# Altium footprint library gumstix.PcbLib: 27 footprints (part 1 of 2)
Each footprint in its own frame and in the unit in brackets; x right, y up, seen from the top. Pads: shape width x height; smd on the part's side, far side on the other; paste and mask are expansions set on the pad; w line width, h text height; cw(c..) or ccw(c..) is an arc to the next point about the centre after c.
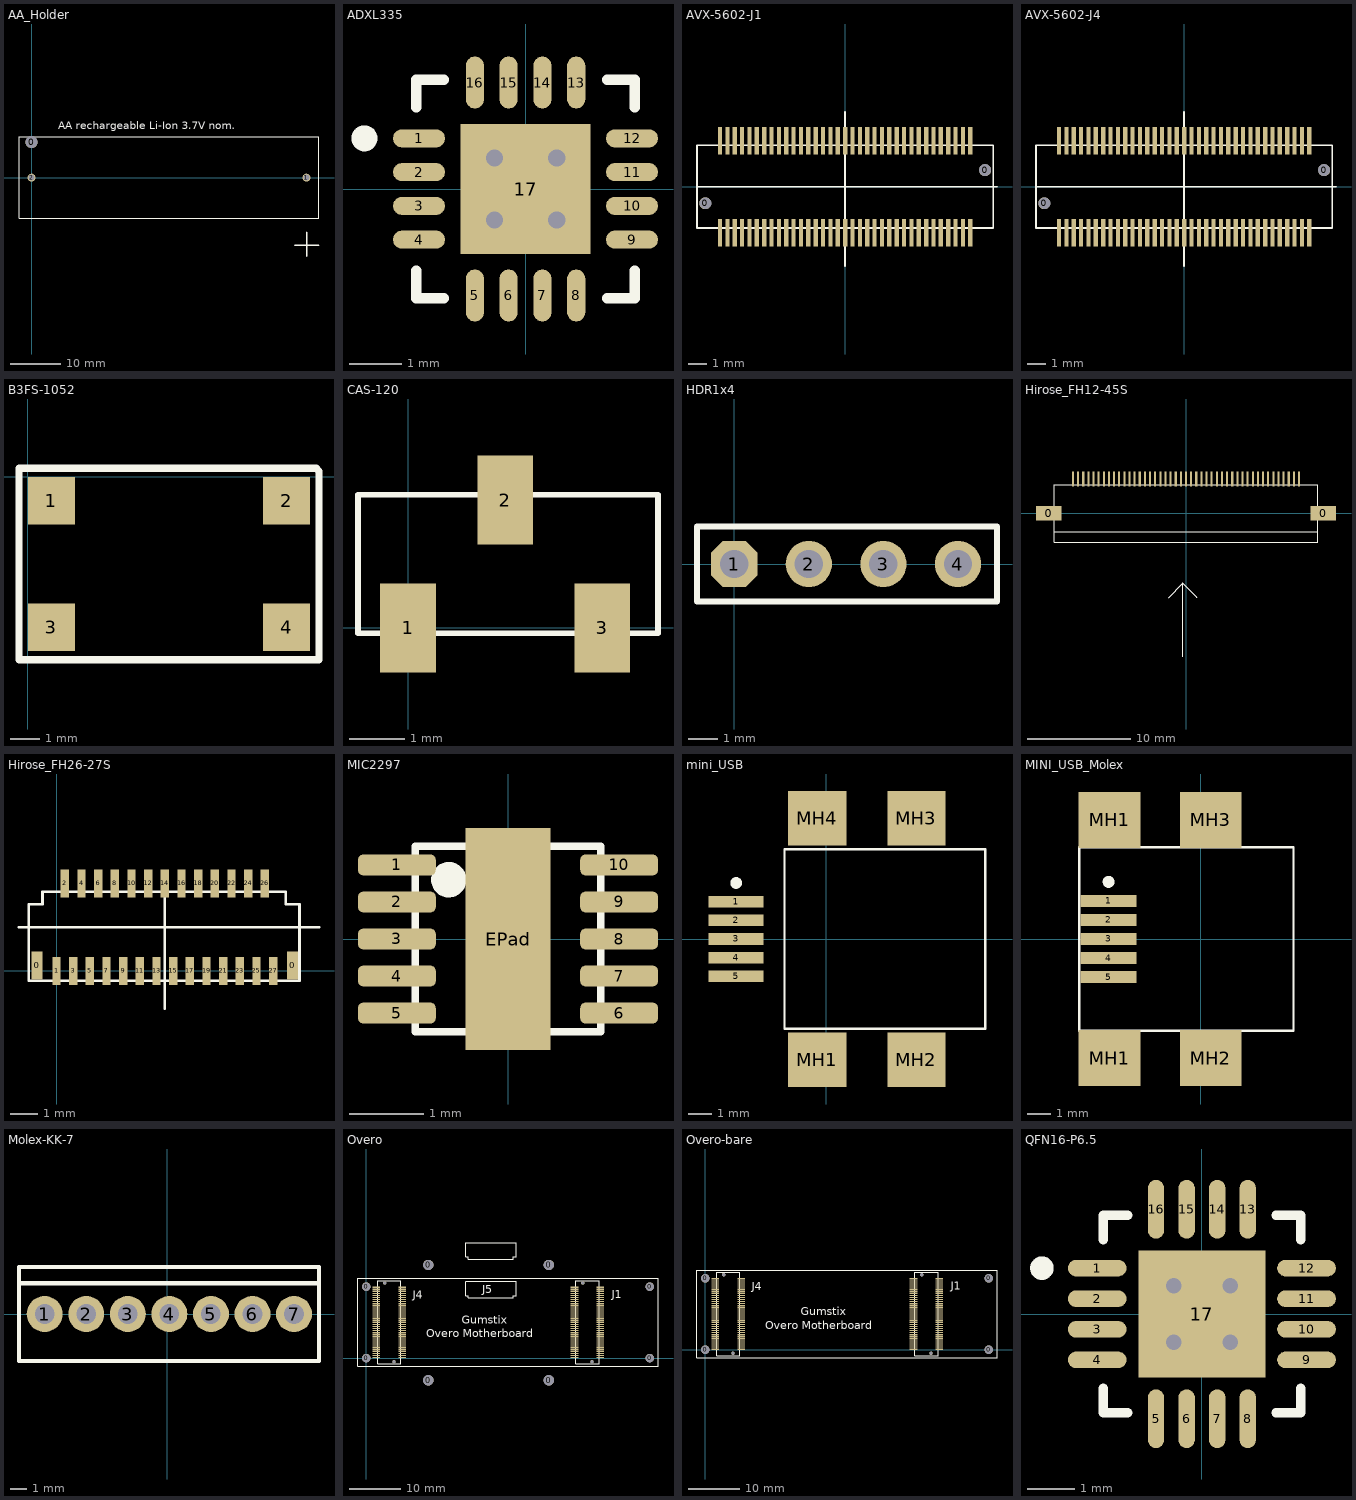
[diagram p0: the footprints below, top view; thin cyan lines are the x and y axes]

## AA_Holder [mm] "Keystone Electronics battery holder for lithium AA"
height 0.6
pads (3):
  round 2.4 hole 2.4: 0(0,7.1)
  round 1.6 hole 1.2: 1(54.9,0) 2(0,0)
Top Overlay:
  lines w0.1: -2.5,-8.15 57.4,-8.15 57.4,8.15 -2.5,8.15 -2.5,-8.15
  lines w0.3: 52.55,-13.45 57.35,-13.45 ; 55,-15.7 55,-10.85
  text "AA rechargeable Li-Ion 3.7V nom." at 5.35,9.65 h1.52

## ADXL335 [mm]
height 1.5
pads (17):
  oval 1x0.35 smd: 1(-2.05,0.975) 2(-2.05,0.325) 3(-2.05,-0.325) 4(-2.05,-0.975) 9(2.05,-0.975) 10(2.05,-0.325) 11(2.05,0.325) 12(2.05,0.975)
  oval 0.35x1 smd: 5(-0.975,-2.05) 6(-0.325,-2.05) 7(0.325,-2.05) 8(0.975,-2.05) 13(0.975,2.05) 14(0.325,2.05) 15(-0.325,2.05) 16(-0.975,2.05)
  rect 2.5x2.5 smd: 17(0,0)
via -0.6,0.6 diameter 0.66 hole 0.33
via 0.6,0.6 diameter 0.66 hole 0.33
via -0.6,-0.6 diameter 0.66 hole 0.33
via 0.6,-0.6 diameter 0.66 hole 0.33
Top Overlay:
  circle w0.25: c-3.1,0.975 r0.125
  lines w0.2: -2.1,-1.575 -2.1,-2.1 -1.575,-2.1 ; -2.1,1.575 -2.1,2.1 -1.575,2.1 ; 1.575,-2.1 2.1,-2.1 2.1,-1.575 ; 1.575,2.1 2.1,2.1 2.1,1.575

## AVX-5602-J1 [mm] "Receptacle Vertical SMT Without metal tab"
height 1.5
pads (72):
  round 0.65 hole 0.65: 0(-7.6,-0.9) 0(7.6,0.9)
  rect 0.23x1.5 smd: J1_1(6.8,-2.5) J1_2(6.4,-2.5) J1_3(6,-2.5) J1_4(5.6,-2.5) J1_5(5.2,-2.5) J1_6(4.8,-2.5) J1_7(4.4,-2.5) J1_8(4,-2.5) J1_9(3.6,-2.5) J1_10(3.2,-2.5) J1_11(2.8,-2.5) J1_12(2.4,-2.5) J1_13(2,-2.5) J1_14(1.6,-2.5) J1_15(1.2,-2.5) J1_16(0.8,-2.5) J1_17(0.4,-2.5) J1_18(0,-2.5) J1_19(-0.4,-2.5) J1_20(-0.8,-2.5) J1_21(-1.2,-2.5) J1_22(-1.6,-2.5) J1_23(-2,-2.5) J1_24(-2.4,-2.5) J1_25(-2.8,-2.5) J1_26(-3.2,-2.5) J1_27(-3.6,-2.5) J1_28(-4,-2.5) J1_29(-4.4,-2.5) J1_30(-4.8,-2.5) J1_31(-5.2,-2.5) J1_32(-5.6,-2.5) J1_33(-6,-2.5) J1_34(-6.4,-2.5) J1_35(-6.8,-2.5) J1_36(-6.8,2.5) J1_37(-6.4,2.5) J1_38(-6,2.5) J1_39(-5.6,2.5) J1_40(-5.2,2.5) J1_41(-4.8,2.5) J1_42(-4.4,2.5) J1_43(-4,2.5) J1_44(-3.6,2.5) J1_45(-3.2,2.5) J1_46(-2.8,2.5) J1_47(-2.4,2.5) J1_48(-2,2.5) J1_49(-1.6,2.5) J1_50(-1.2,2.5) J1_51(-0.8,2.5) J1_52(-0.4,2.5) J1_53(0,2.5) J1_54(0.4,2.5) J1_55(0.8,2.5) J1_56(1.2,2.5) J1_57(1.6,2.5) J1_58(2,2.5) J1_59(2.4,2.5) J1_60(2.8,2.5) J1_61(3.2,2.5) J1_62(3.6,2.5) J1_63(4,2.5) J1_64(4.4,2.5) J1_65(4.8,2.5) J1_66(5.2,2.5) J1_67(5.6,2.5) J1_68(6,2.5) J1_69(6.4,2.5) J1_70(6.8,2.5)
Top Overlay:
  lines w0.1: -8,0 8.25,0 ; 0,-4.3 0,4.05 ; -8.05,-2.25 -8.05,2.25 8.05,2.25 8.05,-2.25 -8.05,-2.25

## AVX-5602-J4 [mm] "Receptacle Vertical SMT Without metal tab"
height 1.5
pads (72):
  round 0.65 hole 0.65: 0(-7.6,-0.9) 0(7.6,0.9)
  rect 0.23x1.5 smd: J4_1(6.8,-2.5) J4_2(6.4,-2.5) J4_3(6,-2.5) J4_4(5.6,-2.5) J4_5(5.2,-2.5) J4_6(4.8,-2.5) J4_7(4.4,-2.5) J4_8(4,-2.5) J4_9(3.6,-2.5) J4_10(3.2,-2.5) J4_11(2.8,-2.5) J4_12(2.4,-2.5) J4_13(2,-2.5) J4_14(1.6,-2.5) J4_15(1.2,-2.5) J4_16(0.8,-2.5) J4_17(0.4,-2.5) J4_18(0,-2.5) J4_19(-0.4,-2.5) J4_20(-0.8,-2.5) J4_21(-1.2,-2.5) J4_22(-1.6,-2.5) J4_23(-2,-2.5) J4_24(-2.4,-2.5) J4_25(-2.8,-2.5) J4_26(-3.2,-2.5) J4_27(-3.6,-2.5) J4_28(-4,-2.5) J4_29(-4.4,-2.5) J4_30(-4.8,-2.5) J4_31(-5.2,-2.5) J4_32(-5.6,-2.5) J4_33(-6,-2.5) J4_34(-6.4,-2.5) J4_35(-6.8,-2.5) J4_36(-6.8,2.5) J4_37(-6.4,2.5) J4_38(-6,2.5) J4_39(-5.6,2.5) J4_40(-5.2,2.5) J4_41(-4.8,2.5) J4_42(-4.4,2.5) J4_43(-4,2.5) J4_44(-3.6,2.5) J4_45(-3.2,2.5) J4_46(-2.8,2.5) J4_47(-2.4,2.5) J4_48(-2,2.5) J4_49(-1.6,2.5) J4_50(-1.2,2.5) J4_51(-0.8,2.5) J4_52(-0.4,2.5) J4_53(0,2.5) J4_54(0.4,2.5) J4_55(0.8,2.5) J4_56(1.2,2.5) J4_57(1.6,2.5) J4_58(2,2.5) J4_59(2.4,2.5) J4_60(2.8,2.5) J4_61(3.2,2.5) J4_62(3.6,2.5) J4_63(4,2.5) J4_64(4.4,2.5) J4_65(4.8,2.5) J4_66(5.2,2.5) J4_67(5.6,2.5) J4_68(6,2.5) J4_69(6.4,2.5) J4_70(6.8,2.5)
Top Overlay:
  lines w0.1: -8,0 8.25,0 ; 0,-4.3 0,4.05 ; -8.05,-2.25 8.05,-2.25 8.05,2.25 -8.05,2.25 -8.05,-2.25

## B3FS-1052 [mm] "SMD SPNO tactile switch"
height 9.5
pads (4):
  rect 1.6x1.6 smd: 1(0.8,-0.825) 2(8.8,-0.825) 3(0.8,-5.125) 4(8.8,-5.125)
Top Overlay:
  lines w0.254: -0.3,-6.225 9.9,-6.225 9.9,0.175 9.8,0.275 -0.3,0.275 -0.3,-6.225

## CAS-120 [mm] "SMD slide switch"
height 2.5
pads (3):
  rect 1x1.6 smd: 1(0,0) 2(1.75,2.3) 3(3.5,0)
Top Overlay:
  lines w0.1: -0.9,-0.1 4.5,-0.1 4.5,2.4 -0.9,2.4 -0.9,-0.1

## HDR1x4 [mil]
pads (4):
  oct 62x62 hole 38: 1(0,0)
  round 62 hole 38: 2(100,0) 3(200,0) 4(300,0)
Top Overlay:
  lines w8: -50,-50 -50,50 352.36,50 352.36,-50 -50,-50

## Hirose_FH12-45S [mm] "45 Pin connector for Samsung LCD"
pads (47):
  rect 2.5x1.4 smd: 0(-13.35,0) 0(13.35,0)
  rrect50% 0.2x1.5 smd: 1(-11,3.35) 2(-10.5,3.35) 3(-10,3.35) 4(-9.5,3.35) 5(-9,3.35) 6(-8.5,3.35) 7(-8,3.35) 8(-7.5,3.35) 9(-7,3.35) 10(-6.5,3.35) 11(-6,3.35) 12(-5.5,3.35) 13(-5,3.35) 14(-4.5,3.35) 15(-4,3.35) 16(-3.5,3.35) 17(-3,3.35) 18(-2.5,3.35) 19(-2,3.35) 20(-1.5,3.35) 21(-1,3.35) 22(-0.5,3.35) 23(0,3.35) 24(0.5,3.35) 25(1,3.35) 26(1.5,3.35) 27(2,3.35) 28(2.5,3.35) 29(3,3.35) 30(3.5,3.35) 31(4,3.35) 32(4.5,3.35) 33(5,3.35) 34(5.5,3.35) 35(6,3.35) 36(6.5,3.35) 37(7,3.35) 38(7.5,3.35) 39(8,3.35) 40(8.5,3.35) 41(9,3.35) 42(9.5,3.35) 43(10,3.35) 44(10.5,3.35) 45(11,3.35)
Top Overlay:
  lines w0.1: -12.8,-1.8 12.8,-1.8 ; -1.7,-8.2 -0.3,-6.8 1.05,-8.15 1.05,-8.2 ; -0.3,-13.95 -0.3,-6.75 ; -12.8,-2.8 12.8,-2.8 12.8,2.8 -12.8,2.8 -12.8,-2.8

## Hirose_FH26-27S [mm] "Camera Interface connector"
pads (29):
  rect 0.4x1 smd: 0(-0.7,0.2) 0(8.5,0.2)
  rect 0.3x1 smd: 1(0,0) 2(0.3,3.15) 3(0.6,0) 4(0.9,3.15) 5(1.2,0) 6(1.5,3.15) 7(1.8,0) 8(2.1,3.15) 9(2.4,0) 10(2.7,3.15) 11(3,0) 12(3.3,3.15) 13(3.6,0) 14(3.9,3.15) 15(4.2,0) 16(4.5,3.15) 17(4.8,0) 18(5.1,3.15) 19(5.4,0) 20(5.7,3.15) 21(6,0) 22(6.3,3.15) 23(6.6,0) 24(6.9,3.15) 25(7.2,0) 26(7.5,3.15) 27(7.8,0)
Top Overlay:
  lines w0.1: -1.35,1.575 9.45,1.575 ; 3.9,-1.35 3.9,3.05 ; 8.75,-0.35 -1,-0.35 -1,2.4 -0.5,2.4 -0.5,2.85 8.25,2.85 8.25,2.4 8.75,2.4 8.75,-0.3

## MIC2297 [mm] "Micrel White LED Driver"
height 0.85
pads (11):
  rrect50% 1.05x0.28 smd: 1(-1.5,1) 2(-1.5,0.5) 3(-1.5,0) 4(-1.5,-0.5) 5(-1.5,-1) 6(1.5,-1) 7(1.5,-0.5) 8(1.5,0) 9(1.5,0.5) 10(1.5,1)
  rect 1.15x3 smd: EPad(0,0)
Top Overlay:
  circle w0.254: c-0.8,0.8 r0.112
  lines w0.1: -1.25,-1.25 1.25,-1.25 1.25,1.25 -1.25,1.25 -1.25,-1.25

## mini_USB [mm]
pads (9):
  rect 2.35x0.5 smd: 1(-3.862,1.6) 2(-3.862,0.8) 3(-3.862,0) 4(-3.862,-0.8) 5(-3.862,-1.6)
  rect 2.5x2.35 smd: MH1(-0.387,-5.175) MH2(3.863,-5.175) MH3(3.863,5.175) MH4(-0.387,5.175)
Top Overlay:
  circle w0.25: c-3.862,2.4 r0.125
  lines w0.1: -1.788,-3.85 6.813,-3.85 6.813,3.85 -1.788,3.85 -1.788,-3.85

## MINI_USB_Molex [mm]
pads (9):
  rect 2.35x0.5 smd: 1(-3.862,1.6) 2(-3.862,0.8) 3(-3.862,0) 4(-3.862,-0.8) 5(-3.862,-1.6)
  rect 2.6x2.35 smd: MH1(-3.825,-5) MH1(-3.825,5) MH2(0.425,-5) MH3(0.425,5)
Top Overlay:
  circle w0.25: c-3.862,2.4 r0.125
  lines w0.1: -5.1,-3.85 3.9,-3.85 3.9,3.85 -5.1,3.85 -5.1,-3.85

## Molex-KK-7 [mm] "7 pin wire-to-board PCB connector"
pads (7):
  round 2.2 hole 1.2: 1(-7.5,0) 2(-4.96,0) 3(-2.42,0) 4(0.12,0) 5(2.66,0) 6(5.2,0) 7(7.74,0)
Top Overlay:
  lines w0.254: -9.07,-2.88 -9.07,2.88 ; -9.025,-2.88 9.265,-2.88 ; -9.025,1.88 9.265,1.88 ; -9.025,2.88 9.265,2.88 ; 9.26,-2.88 9.26,2.88

## Overo [mm] "Gumstix Overo Motherboard placement"
height 6
pads (152):
  round 1.65 hole 1.65 unplated: 0(0,0) 0(0,13.8) 0(54.8,0) 0(54.8,13.8)
  round 0.65 hole 0.65: 0(3.55,14.5) 0(5.35,-0.7) 0(41.85,14.5) 0(43.65,-0.7)
  round 2 hole 2: 0(12,-4.3) 0(12,18) 0(35.3,-4.3) 0(35.3,18)
  rect 1.5x0.23 smd: J1_1(40.25,0.1) J1_2(40.25,0.5) J1_3(40.25,0.9) J1_4(40.25,1.3) J1_5(40.25,1.7) J1_6(40.25,2.1) J1_7(40.25,2.5) J1_8(40.25,2.9) J1_9(40.25,3.3) J1_10(40.25,3.7) J1_11(40.25,4.1) J1_12(40.25,4.5) J1_13(40.25,4.9) J1_14(40.25,5.3) J1_15(40.25,5.7) J1_16(40.25,6.1) J1_17(40.25,6.5) J1_18(40.25,6.9) J1_19(40.25,7.3) J1_20(40.25,7.7) J1_21(40.25,8.1) J1_22(40.25,8.5) J1_23(40.25,8.9) J1_24(40.25,9.3) J1_25(40.25,9.7) J1_26(40.25,10.1) J1_27(40.25,10.5) J1_28(40.25,10.9) J1_29(40.25,11.3) J1_30(40.25,11.7) J1_31(40.25,12.1) J1_32(40.25,12.5) J1_33(40.25,12.9) J1_34(40.25,13.3) J1_35(40.25,13.7) J1_36(45.25,13.7) J1_37(45.25,13.3) J1_38(45.25,12.9) J1_39(45.25,12.5) J1_40(45.25,12.1) J1_41(45.25,11.7) J1_42(45.25,11.3) J1_43(45.25,10.9) J1_44(45.25,10.5) J1_45(45.25,10.1) J1_46(45.25,9.7) J1_47(45.25,9.3) J1_48(45.25,8.9) J1_49(45.25,8.5) J1_50(45.25,8.1) J1_51(45.25,7.7) J1_52(45.25,7.3) J1_53(45.25,6.9) J1_54(45.25,6.5) J1_55(45.25,6.1) J1_56(45.25,5.7) J1_57(45.25,5.3) J1_58(45.25,4.9) J1_59(45.25,4.5) J1_60(45.25,4.1) J1_61(45.25,3.7) J1_62(45.25,3.3) J1_63(45.25,2.9) J1_64(45.25,2.5) J1_65(45.25,2.1) J1_66(45.25,1.7) J1_67(45.25,1.3) J1_68(45.25,0.9) J1_69(45.25,0.5) J1_70(45.25,0.1) J4_1(6.95,13.7) J4_2(6.95,13.3) J4_3(6.95,12.9) J4_4(6.95,12.5) J4_5(6.95,12.1) J4_6(6.95,11.7) J4_7(6.95,11.3) J4_8(6.95,10.9) J4_9(6.95,10.5) J4_10(6.95,10.1) J4_11(6.95,9.7) J4_12(6.95,9.3) J4_13(6.95,8.9) J4_14(6.95,8.5) J4_15(6.95,8.1) J4_16(6.95,7.7) J4_17(6.95,7.3) J4_18(6.95,6.9) J4_19(6.95,6.5) J4_20(6.95,6.1) J4_21(6.95,5.7) J4_22(6.95,5.3) J4_23(6.95,4.9) J4_24(6.95,4.5) J4_25(6.95,4.1) J4_26(6.95,3.7) J4_27(6.95,3.3) J4_28(6.95,2.9) J4_29(6.95,2.5) J4_30(6.95,2.1) J4_31(6.95,1.7) J4_32(6.95,1.3) J4_33(6.95,0.9) J4_34(6.95,0.5) J4_35(6.95,0.1) J4_36(1.95,0.1) J4_37(1.95,0.5) J4_38(1.95,0.9) J4_39(1.95,1.3) J4_40(1.95,1.7) J4_41(1.95,2.1) J4_42(1.95,2.5) J4_43(1.95,2.9) J4_44(1.95,3.3) J4_45(1.95,3.7) J4_46(1.95,4.1) J4_47(1.95,4.5) J4_48(1.95,4.9) J4_49(1.95,5.3) J4_50(1.95,5.7) J4_51(1.95,6.1) J4_52(1.95,6.5) J4_53(1.95,6.9) J4_54(1.95,7.3) J4_55(1.95,7.7) J4_56(1.95,8.1) J4_57(1.95,8.5) J4_58(1.95,8.9) J4_59(1.95,9.3) J4_60(1.95,9.7) J4_61(1.95,10.1) J4_62(1.95,10.5) J4_63(1.95,10.9) J4_64(1.95,11.3) J4_65(1.95,11.7) J4_66(1.95,12.1) J4_67(1.95,12.5) J4_68(1.95,12.9) J4_69(1.95,13.3) J4_70(1.95,13.7)
Top Overlay:
  lines w0.1: -1.6,15.4 -1.6,-1.6 56.4,-1.6 56.4,15.4 -1.55,15.4 ; 19.2,14.775 19.2,12.075 19.7,12.075 19.7,11.625 28.45,11.625 28.45,12.075 28.95,12.075 28.95,14.825 19.2,14.825 ; 19.2,22.275 19.2,19.575 19.7,19.575 19.7,19.125 28.45,19.125 28.45,19.575 28.95,19.575 28.95,22.325 19.2,22.325 ; 2.2,-1.15 2.2,14.95 6.7,14.95 6.7,-1.15 2.2,-1.15 ; 40.5,-1.15 40.5,14.95 45,14.95 45,-1.15 40.5,-1.15
  text "J5" at 22.45,12.55 h1.52
  text "Gumstix" at 18.5,6.65 h1.52
  text "Overo Motherboard" at 11.55,4 h1.52
  text "J4" at 8.95,11.45 h1.52
  text "J1" at 47.5,11.55 h1.52

## Overo-bare [mm] "Gumstix Overo Motherboard placement"
height 6
pads (148):
  round 1.65 hole 1.65 unplated: 0(0,0) 0(0,13.8) 0(54.8,0) 0(54.8,13.8)
  round 0.65 hole 0.65: 0(3.55,14.5) 0(5.35,-0.7) 0(41.85,14.5) 0(43.65,-0.7)
  rect 1.5x0.23 smd: J1_1(40.25,0.1) J1_2(40.25,0.5) J1_3(40.25,0.9) J1_4(40.25,1.3) J1_5(40.25,1.7) J1_6(40.25,2.1) J1_7(40.25,2.5) J1_8(40.25,2.9) J1_9(40.25,3.3) J1_10(40.25,3.7) J1_11(40.25,4.1) J1_12(40.25,4.5) J1_13(40.25,4.9) J1_14(40.25,5.3) J1_15(40.25,5.7) J1_16(40.25,6.1) J1_17(40.25,6.5) J1_18(40.25,6.9) J1_19(40.25,7.3) J1_20(40.25,7.7) J1_21(40.25,8.1) J1_22(40.25,8.5) J1_23(40.25,8.9) J1_24(40.25,9.3) J1_25(40.25,9.7) J1_26(40.25,10.1) J1_27(40.25,10.5) J1_28(40.25,10.9) J1_29(40.25,11.3) J1_30(40.25,11.7) J1_31(40.25,12.1) J1_32(40.25,12.5) J1_33(40.25,12.9) J1_34(40.25,13.3) J1_35(40.25,13.7) J1_36(45.25,13.7) J1_37(45.25,13.3) J1_38(45.25,12.9) J1_39(45.25,12.5) J1_40(45.25,12.1) J1_41(45.25,11.7) J1_42(45.25,11.3) J1_43(45.25,10.9) J1_44(45.25,10.5) J1_45(45.25,10.1) J1_46(45.25,9.7) J1_47(45.25,9.3) J1_48(45.25,8.9) J1_49(45.25,8.5) J1_50(45.25,8.1) J1_51(45.25,7.7) J1_52(45.25,7.3) J1_53(45.25,6.9) J1_54(45.25,6.5) J1_55(45.25,6.1) J1_56(45.25,5.7) J1_57(45.25,5.3) J1_58(45.25,4.9) J1_59(45.25,4.5) J1_60(45.25,4.1) J1_61(45.25,3.7) J1_62(45.25,3.3) J1_63(45.25,2.9) J1_64(45.25,2.5) J1_65(45.25,2.1) J1_66(45.25,1.7) J1_67(45.25,1.3) J1_68(45.25,0.9) J1_69(45.25,0.5) J1_70(45.25,0.1) J4_1(6.95,13.7) J4_2(6.95,13.3) J4_3(6.95,12.9) J4_4(6.95,12.5) J4_5(6.95,12.1) J4_6(6.95,11.7) J4_7(6.95,11.3) J4_8(6.95,10.9) J4_9(6.95,10.5) J4_10(6.95,10.1) J4_11(6.95,9.7) J4_12(6.95,9.3) J4_13(6.95,8.9) J4_14(6.95,8.5) J4_15(6.95,8.1) J4_16(6.95,7.7) J4_17(6.95,7.3) J4_18(6.95,6.9) J4_19(6.95,6.5) J4_20(6.95,6.1) J4_21(6.95,5.7) J4_22(6.95,5.3) J4_23(6.95,4.9) J4_24(6.95,4.5) J4_25(6.95,4.1) J4_26(6.95,3.7) J4_27(6.95,3.3) J4_28(6.95,2.9) J4_29(6.95,2.5) J4_30(6.95,2.1) J4_31(6.95,1.7) J4_32(6.95,1.3) J4_33(6.95,0.9) J4_34(6.95,0.5) J4_35(6.95,0.1) J4_36(1.95,0.1) J4_37(1.95,0.5) J4_38(1.95,0.9) J4_39(1.95,1.3) J4_40(1.95,1.7) J4_41(1.95,2.1) J4_42(1.95,2.5) J4_43(1.95,2.9) J4_44(1.95,3.3) J4_45(1.95,3.7) J4_46(1.95,4.1) J4_47(1.95,4.5) J4_48(1.95,4.9) J4_49(1.95,5.3) J4_50(1.95,5.7) J4_51(1.95,6.1) J4_52(1.95,6.5) J4_53(1.95,6.9) J4_54(1.95,7.3) J4_55(1.95,7.7) J4_56(1.95,8.1) J4_57(1.95,8.5) J4_58(1.95,8.9) J4_59(1.95,9.3) J4_60(1.95,9.7) J4_61(1.95,10.1) J4_62(1.95,10.5) J4_63(1.95,10.9) J4_64(1.95,11.3) J4_65(1.95,11.7) J4_66(1.95,12.1) J4_67(1.95,12.5) J4_68(1.95,12.9) J4_69(1.95,13.3) J4_70(1.95,13.7)
Top Overlay:
  lines w0.1: -1.6,15.4 -1.6,-1.6 56.4,-1.6 56.4,15.4 -1.55,15.4 ; 2.2,-1.15 2.2,14.95 6.7,14.95 6.7,-1.15 2.2,-1.15 ; 40.5,-1.15 40.5,14.95 45,14.95 45,-1.15 40.5,-1.15
  text "Gumstix" at 18.5,6.65 h1.52
  text "Overo Motherboard" at 11.55,4 h1.52
  text "J4" at 8.95,11.45 h1.52
  text "J1" at 47.5,11.55 h1.52

## QFN16-P6.5 [mm] "QFN, 16-Leads, Body 4.2x4.2mm (max), Pitch 0.65mm, IPC Medium Density"
height 1
pads (17):
  oval 1.25x0.35 smd: 1(-2.225,0.975) 2(-2.225,0.325) 3(-2.225,-0.325) 4(-2.225,-0.975) 9(2.225,-0.975) 10(2.225,-0.325) 11(2.225,0.325) 12(2.225,0.975)
  oval 0.35x1.25 smd: 5(-0.975,-2.225) 6(-0.325,-2.225) 7(0.325,-2.225) 8(0.975,-2.225) 13(0.975,2.225) 14(0.325,2.225) 15(-0.325,2.225) 16(-0.975,2.225)
  rect 2.7x2.7 smd: 17(0,0)
via 0.6,-0.6 diameter 0.66 hole 0.33
via -0.6,-0.6 diameter 0.66 hole 0.33
via 0.6,0.6 diameter 0.66 hole 0.33
via -0.6,0.6 diameter 0.66 hole 0.33
Top Overlay:
  circle w0.25: c-3.4,0.975 r0.125
  lines w0.2: -2.1,-1.575 -2.1,-2.1 -1.575,-2.1 ; -2.1,1.575 -2.1,2.1 -1.575,2.1 ; 1.575,-2.1 2.1,-2.1 2.1,-1.575 ; 1.575,2.1 2.1,2.1 2.1,1.575